# Altium schematic symbol library AT24CM02-SSHD-B.Schlib: 1 symbol
Pins are listed as number, name and electrical type; pins without a type are passive.

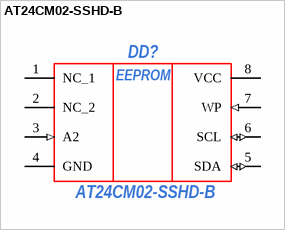
[diagram p0: symbol AT24CM02-SSHD-B]

## AT24CM02-SSHD-B
designator DD?
Undefined or Miscellaneous; Manufacturer_Name: Microchip; Datasheet Link: http://ww1.microchip.com/downloads/en/DeviceDoc/Atmel-8828-SEEPROM-AT24CM02-Datasheet.pdf; Height: 1.75mm; ManufacturerPartNumber: AT24CM02-SSHD-B; Arrow Part Number: AT24CM02-SSHD-B; Arrow Price/Stock: https://www.arrow.com/en/products/at24cm02-sshd-b/microchip-technology; Mouser Part Number: 579-AT24CM02-SSHD-B; Mouser Price/Stock: https://www.mouser.co.uk/ProductDetail/Microchip-Technology-Atmel/AT24CM02-SSHD-B?qs=PUo64BuKcKgKHDEiT7Ztiw%3D%3D
footprint SOIC127P600X175-8N
pins: 1 NC_1, 2 NC_2, 3 A2 (in), 4 GND (power), 5 SDA (io), 6 SCL (io), 7 WP (in), 8 VCC (power)
text: EEPROM